# Altium schematic symbol library Schlib1.SchLib: 13 symbols
Pins are listed as number, name and electrical type; pins without a type are passive.

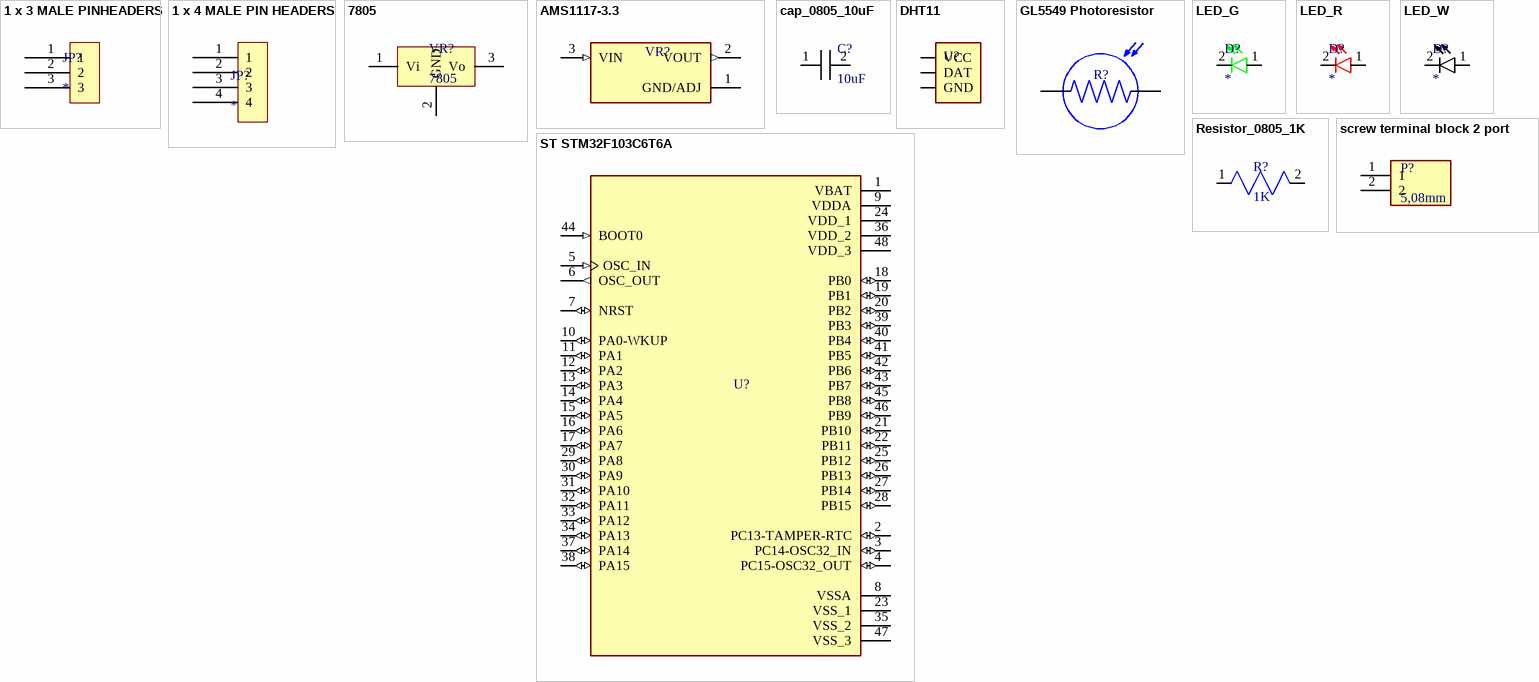
[diagram p0: symbols 1 x 3 MALE PINHEADERS to ST STM32F103C6T6A]

## 1 x 3 MALE PINHEADERS
designator JP?
Gold 3A Through Hole Pin Header 2.5mm 3P 6mm -40℃~+105℃ 3mm 2.54mm Brass Black 1 1x3P Through Hole,P=2.54mm Pin Headers ROHS; Manufacturer: JXTCONN; Mfr.Part#: PZ2.54-1X3P-H25; Splr.Part#: C42431683; Supplier: LCSC
footprint HDR 1~3 2.54mm
pins: 1, 2, 3

## 1 x 4 MALE PIN HEADERS
designator JP?
Gold 3A Through Hole Pin Header 2.5mm 6mm 4P -40℃~+105℃ 3mm 2.54mm Black Brass 1 1x4P Through Hole,P=2.54mm Pin Headers ROHS; Manufacturer: hanxia; Mfr.Part#: HX PZ2.54-1x4P ZZ; Splr.Part#: C32713270; Supplier: LCSC
footprint HDR Male1~4 2.54mm
pins: 1, 2, 3, 4

## 7805
designator VR?
62dB@(120Hz) 1.5A Fixed 5V Positive 25V TO-220 Voltage Regulators - Linear, Low Drop Out (LDO) Regulators ROHS; Manufacturer: ST; Mfr. Part #: L7805CV-DG; Splr.Part#: C3795; Supplieer: LCSC; ComponentLink1Description: New link; ComponentLink1URL: https://www.lcsc.com/product-detail/C3795.html?s_z=n_7805
footprint TO-220-3
pins: 1 Vi, 2 GND, 3 Vo

## AMS1117-3.3
designator VR?
72dB@(120Hz) 1A Fixed 3.3V Positive 16V SOT-223 Voltage Regulators - Linear, Low Drop Out (LDO) Regulators ROHS; Manufacturer: Advanced Monolithic Systems; Mfr. Part #: AMS1117-3.3; Splr.Part#: C6186; Supplieer: LCSC; ComponentLink1Description: New link; ComponentLink1URL: https://www.lcsc.com/product-detail/C3795.html?s_z=n_7805
footprint AMS1117-3.3
pins: 1 GND/ADJ (power), 2 VOUT (out), 3 VIN (in)

## cap_0805_10uF
designator C?, comment 10uF
25V 10uF X5R ±10% 0805 Multilayer Ceramic Capacitors MLCC - SMD/SMT ROHS; Manufacturer: Samsung Electro-Mechanics CL21A226MAYNNNE; Mfr. Part #: CL21A106KAYNNNE; Splr.part#: C15850; Supplier: LCSC; ComponentLink1Description: New link; ComponentLink1URL: https://www.lcsc.com/product-detail/C15850.html?s_z=n_cap%25200805%252010uF
footprint Cap_0805 (Chip2PinSM127P600-8N)
pins: 1, 2

## DHT11
designator U?
±5%RH -20℃~+60℃ 5%RH~95%RH SIP-4 Temperature and Humidity Sensor ROHS; Manufacturer: Aosong; Mfr. Part #: DHT11; supplier: *LCSC; supplier Part #: C117051; ComponentLink1Description: Datasheet; ComponentLink1URL: https://www.lcsc.com/datasheet/C117051.pdf
footprint DHT11
pins: 1 VCC, 2 DAT, 4 GND

## GL5549 Photoresistor
designator R?
540nm 100kΩ~200kΩ 10MΩ Through Hole,P=3mm Photoresistors ROHS; Manufacturer: Senba Sensing Tech; Mfr. Part #: GL5549; supplier: *LCSC; supplier Part #: C125631; ComponentLink1Description: Datasheet; ComponentLink1URL: https://www.lcsc.com/datasheet/C125631.pdf
footprint GL5549 Photoresistor
pins: 1, 2

## LED_G
designator D?
Green 568nm LED Indication - Discrete 2.2V Radial; Manufacturer: Amicc; Mfr.Part#: A-SP192DGHC-C01-4T; Splr.Part#: C19171301; Supplier: LCSC
footprint LED_0805
pins: 1, 2

## LED_R
designator D?
RED 568nm LED Indication - Discrete 2.2V Radial; Manufacturer: Amicc; Mfr.Part#: A-SP192DGHC-C01-4T; Splr.Part#: C19171301; Supplier: LCSC
footprint LED_0805
pins: 1, 2

## LED_W
designator D?
WHITE 568nm LED Indication - Discrete 2.2V Radial; Manufacturer: Amicc; Mfr.Part#: A-SP192DGHC-C01-4T; Splr.Part#: C19171301; Supplier: LCSC
footprint LED_0805
pins: 1, 2

## Resistor_0805_1K
designator R?, comment 1K
125mW Thick Film Resistor 150V ±100ppm/℃ ±1% 1kΩ 0805 Chip Resistor - Surface Mount ROHS; Manufacturer: YAGEO; Mfr. Part #: RC0805FR-071KL; Splr.part#: C95781; Supplier: LCSC; ComponentLink1Description: New link; ComponentLink1URL: https://www.lcsc.com/product-detail/C95781.html?s_z=n_resistor%25200805%25201k
footprint Res_0805 (Chip2PinSM127P600-8N)
pins: 1, 2

## screw terminal block 2 port
designator P?, comment 5,08mm
1x2P 18A -40℃~+105℃ 250V Green 14~30 Through Hole 5.08mm 2.5 1 2 Through Hole,P=5.08mm Screw Terminal Blocks ROHS; Manufacturer: KANGNEX; Mfr. Part #: WJ500V-5.08-2P; Splr.part#: C8465; Supplier: LCSC; ComponentLink1Description: New link; ComponentLink1URL: https://www.lcsc.com/product-detail/C8465.html
footprint Screw_terminal_block_5.0
pins: 1, 2

## ST STM32F103C6T6A
designator U?
ARM-M3 72MHz LQFP-48(7x7) Microcontrollers (MCU/MPU/SOC) ROHS; Manufacturer: ST; Mfr. Part #: STM32F103C6T6A; supplier: *LCSC; supplier Part #: C8303; ComponentLink1Description: Datasheet; ComponentLink1URL: https://www.lcsc.com/datasheet/C125631.pdf
footprint STM32F103C6T6A
pins: 1 VBAT (power), 2 PC13-TAMPER-RTC (io), 3 PC14-OSC32_IN (io), 4 PC15-OSC32_OUT (io), 5 OSC_IN (in), 6 OSC_OUT (out), 7 NRST (io), 8 VSSA (power), 9 VDDA (power), 10 PA0-WKUP (io), 11 PA1 (io), 12 PA2 (io), 13 PA3 (io), 14 PA4 (io), 15 PA5 (io), 16 PA6 (io), 17 PA7 (io), 18 PB0 (io), 19 PB1 (io), 20 PB2 (io), 21 PB10 (io), 22 PB11 (io), 23 VSS_1 (power), 24 VDD_1 (power), 25 PB12 (io), 26 PB13 (io), 27 PB14 (io), 28 PB15 (io), 29 PA8 (io), 30 PA9 (io), 31 PA10 (io), 32 PA11 (io), 33 PA12 (io), 34 PA13 (io), 35 VSS_2 (power), 36 VDD_2 (power), 37 PA14 (io), 38 PA15 (io), 39 PB3 (io), 40 PB4 (io), 41 PB5 (io), 42 PB6 (io), 43 PB7 (io), 44 BOOT0 (in), 45 PB8 (io), 46 PB9 (io), 47 VSS_3 (power), 48 VDD_3 (power)